# Altium footprint library FP-DEV-16771-MFG.PcbLib: 1 footprints
Each footprint in its own frame and in the unit in brackets; x right, y up, seen from the top. Pads: shape width x height; smd on the part's side, far side on the other; paste and mask are expansions set on the pad; w line width, h text height; cw(c..) or ccw(c..) is an arc to the next point about the centre after c.
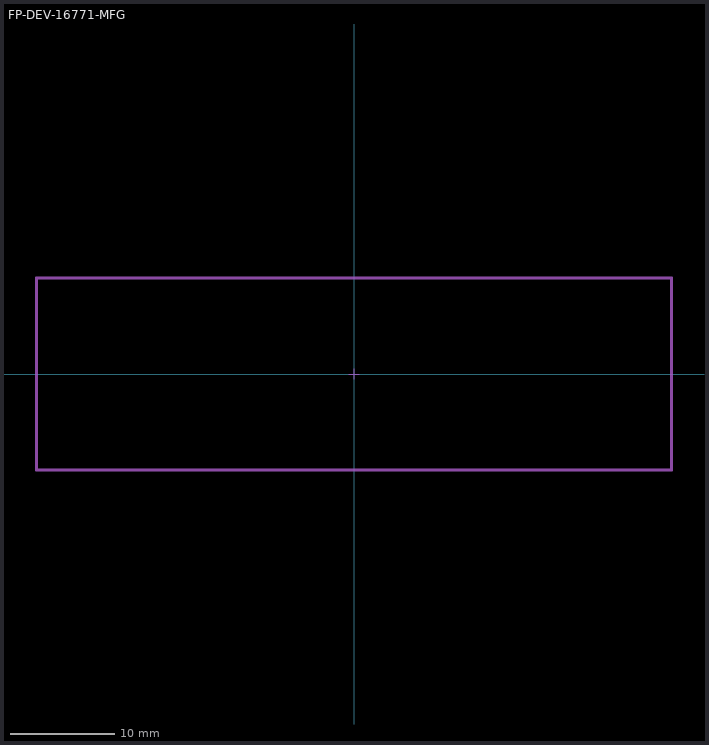
[diagram p0: the footprint, top view; thin cyan lines are the x and y axes]

## FP-DEV-16771-MFG [mm]
Top Assembly:
  lines w0.2: -30.58,-9.29 -30.58,9.29 30.58,9.29 30.58,-9.29 -30.58,-9.29
Top 3D Body:
  lines w0.2: -30.48,-9.19 -30.48,9.19 30.48,9.19 30.48,-9.19 -30.48,-9.19
Top Courtyard:
  lines w0.2: -30.58,-9.29 -30.58,9.29 30.58,9.29 30.58,-9.29 -30.58,-9.29
Top Component Center:
  lines w0.1: -0.5,0 0.5,0 ; 0,-0.5 0,0.5
3D body "UNK_SparkFun_DEV-16771_eec.STEP": height 0.25, standoff 0, extent -30.58,-9.29 30.58,9.29